# Altium footprint library Test Point.PcbLib: 36 footprints (part 1 of 3)
Each footprint in its own frame and in the unit in brackets; x right, y up, seen from the top. Pads: shape width x height; smd on the part's side, far side on the other; paste and mask are expansions set on the pad; w line width, h text height; cw(c..) or ccw(c..) is an arc to the next point about the centre after c.
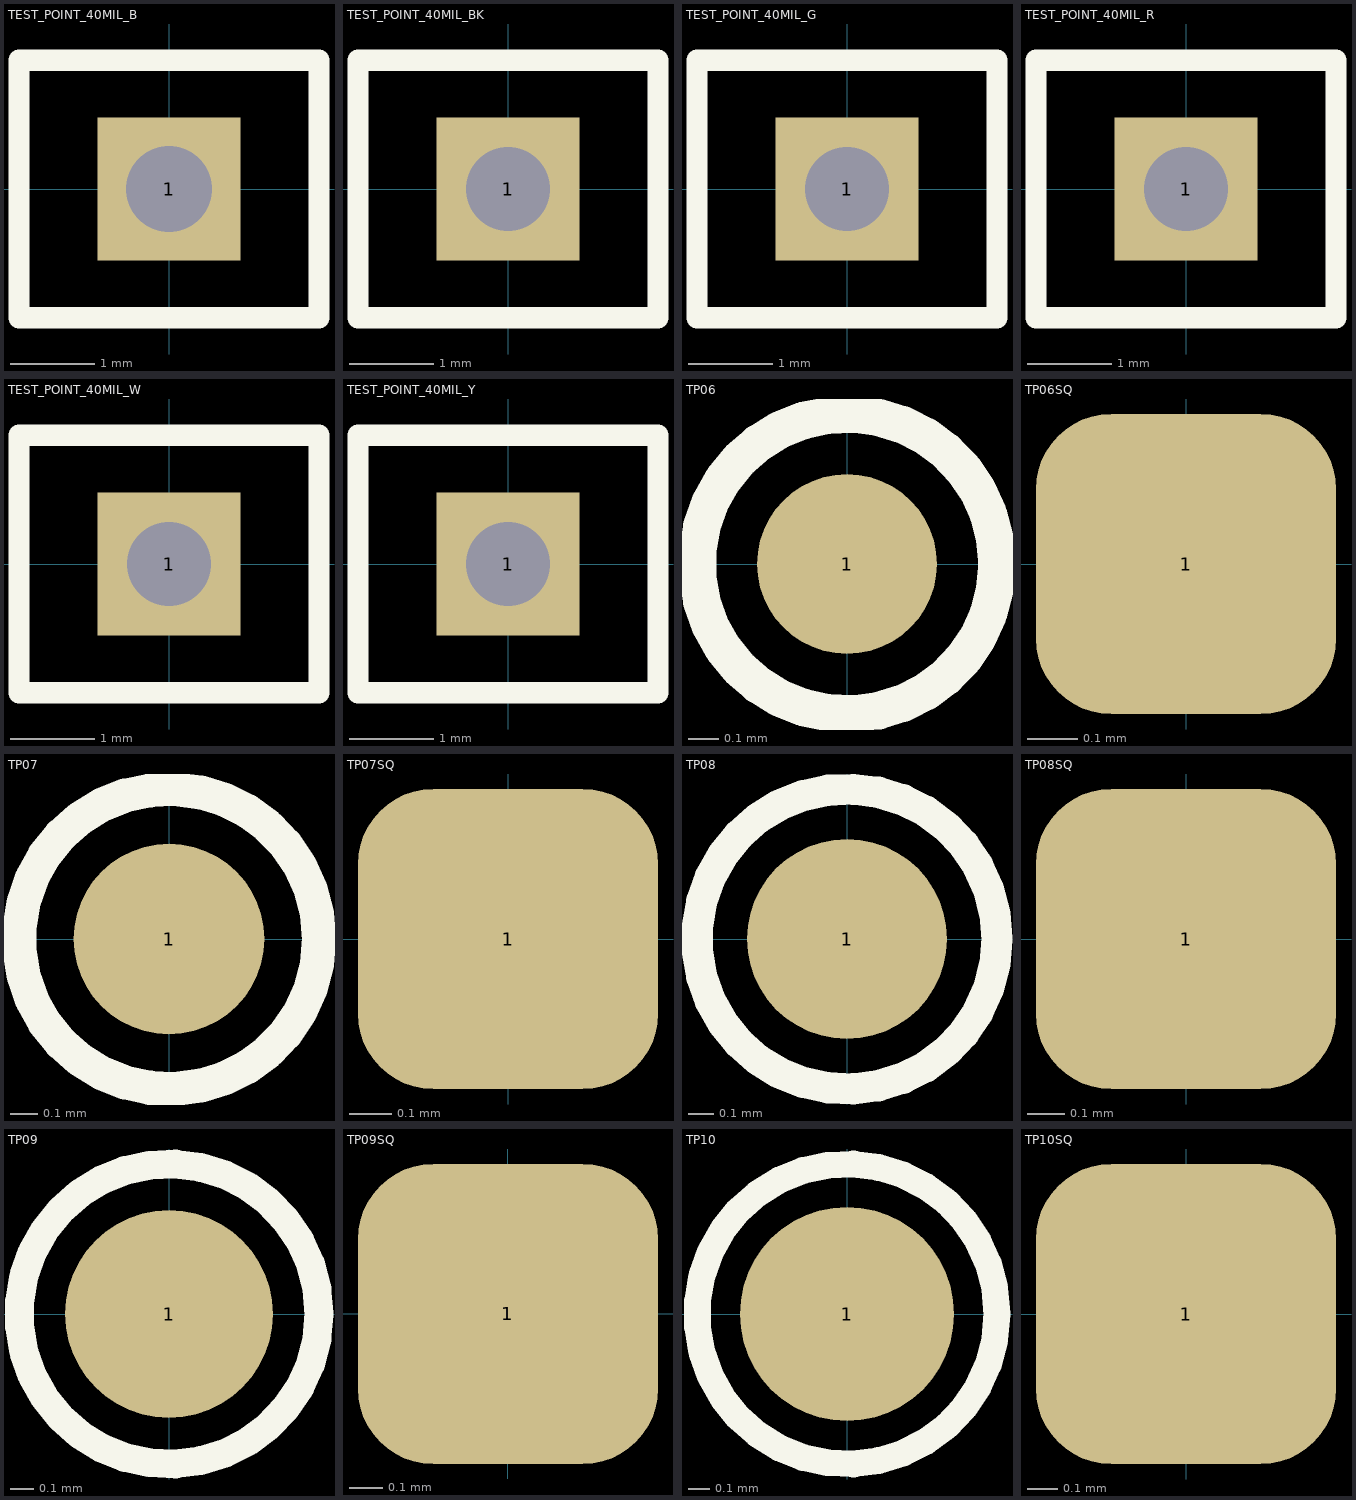
[diagram p0: the footprints below, top view; thin cyan lines are the x and y axes]

## TEST_POINT_40MIL_B [mm]
pads (1):
  rect 1.7x1.7 hole 1.016: 1(0,0)
Top Overlay:
  lines w0.254: -1.778,-1.524 -1.778,1.524 1.778,1.524 1.778,-1.524 -1.778,-1.524
3D body "TEST 3.5R_B.STEP": height 5.41, standoff -3.15, extent -1.675,-1.4 1.675,1.4

## TEST_POINT_40MIL_BK [mm]
pads (1):
  rect 1.7x1.7 hole 1: 1(0,0)
Top Overlay:
  lines w0.254: -1.778,-1.524 1.778,-1.524 1.778,1.524 -1.778,1.524 -1.778,-1.524
3D body "TEST 3.5R_BK.STEP": height 5.41, standoff -3.15, extent -1.675,-1.4 1.675,1.4

## TEST_POINT_40MIL_G [mm]
pads (1):
  rect 1.7x1.7 hole 1: 1(0,0)
Top Overlay:
  lines w0.254: -1.778,-1.524 1.778,-1.524 1.778,1.524 -1.778,1.524 -1.778,-1.524
3D body "TEST 3.5R_G.STEP": height 5.41, standoff -3.15, extent -1.675,-1.4 1.675,1.4

## TEST_POINT_40MIL_R [mm]
pads (1):
  rect 1.7x1.7 hole 1: 1(0,0)
Top Overlay:
  lines w0.254: -1.778,-1.524 -1.778,1.524 1.778,1.524 1.778,-1.524 -1.778,-1.524
3D body "TEST 3.5R_R.STEP": height 5.41, standoff -3.15, extent -1.675,-1.4 1.675,1.4

## TEST_POINT_40MIL_W [mm]
pads (1):
  rect 1.7x1.7 hole 1: 1(0,0)
Top Overlay:
  lines w0.254: -1.778,-1.524 1.778,-1.524 1.778,1.524 -1.778,1.524 -1.778,-1.524
3D body "TEST 3.5R_W.STEP": height 5.41, standoff -3.15, extent -1.675,-1.4 1.675,1.4

## TEST_POINT_40MIL_Y [mm] "TEST TP1.4_Y"
pads (1):
  rect 1.7x1.7 hole 1: 1(0,0)
Top Overlay:
  lines w0.254: -1.778,-1.524 1.778,-1.524 1.778,1.524 -1.778,1.524 -1.778,-1.524
3D body "TEST 3.5R_Y.STEP": height 5.41, standoff -3.15, extent -1.675,-1.4 1.675,1.4

## TP06 [mm] "Round SMD Test Pin; 0.6 mm"
pads (1):
  round 0.6 smd: 1(0,0)
Top Overlay:
  circle w0.125: c0,0 r0.5

## TP06SQ [mm] "Square SMD Test Pin; 0.6 mm"
pads (1):
  rrect50% 0.6x0.6 smd: 1(0,0)

## TP07 [mm] "Round SMD Test Pin; 0.7 mm"
pads (1):
  round 0.7 smd: 1(0,0)
Top Overlay:
  circle w0.125: c0,0 r0.55

## TP07SQ [mm] "Square SMD Test Pin; 0.7 mm"
pads (1):
  rrect50% 0.7x0.7 smd: 1(0,0)

## TP08 [mm] "Round SMD Test Pin; 0.8 mm"
pads (1):
  round 0.8 smd: 1(0,0)
Top Overlay:
  circle w0.125: c0,0 r0.6

## TP08SQ [mm] "Square SMD Test Pin; 0.8 mm"
pads (1):
  rrect50% 0.8x0.8 smd: 1(0,0)

## TP09 [mm] "Round SMD Test Pin; 0.9 mm"
pads (1):
  round 0.9 smd: 1(0,0)
Top Overlay:
  circle w0.125: c0,0 r0.65

## TP09SQ [mm] "Square SMD Test Pin; 0.9 mm"
pads (1):
  rrect50% 0.9x0.9 smd: 1(0,0)

## TP10 [mm] "Round SMD Test Pin; 1.0 mm"
pads (1):
  round 1 smd: 1(0,0)
Top Overlay:
  circle w0.125: c0,0 r0.7

## TP10SQ [mm] "Square SMD Test Pin; 1.0 mm"
pads (1):
  rrect50% 1x1 smd: 1(0,0)